# Altium footprint library MONO_JACK_HDR.PcbLib: 1 footprints
Each footprint in its own frame and in the unit in brackets; x right, y up, seen from the top. Pads: shape width x height; smd on the part's side, far side on the other; paste and mask are expansions set on the pad; w line width, h text height; cw(c..) or ccw(c..) is an arc to the next point about the centre after c.
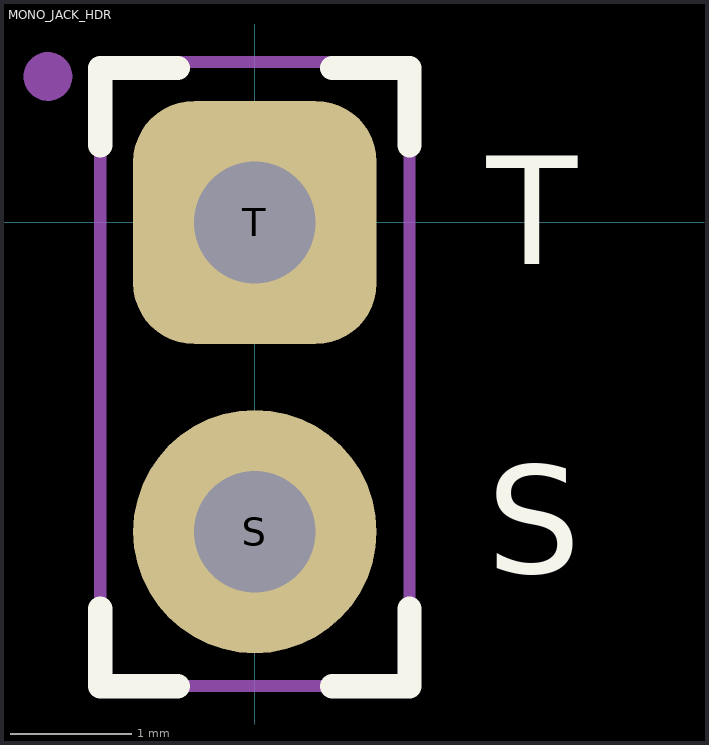
[diagram p0: the footprint, top view; thin cyan lines are the x and y axes]

## MONO_JACK_HDR [mm] "Audio Jack, Mono, No Switch, Header Connection"
height 1
pads (2):
  round 2 hole 1: S(0,-2.54)
  rrect50% 2x2 / inner round 2 / far side rrect50% 2x2 hole 1: T(0,0)
Top Overlay:
  lines w0.2: -1.27,-3.175 -1.27,-3.81 -0.635,-3.81 ; -1.27,0.635 -1.27,1.27 -0.635,1.27 ; 0.635,-3.81 1.27,-3.81 1.27,-3.175 ; 0.635,1.27 1.27,1.27 1.27,0.635
  text "T" at 1.905,-0.635 h1.52
  text "S" at 1.905,-3.175 h1.52
Mechanical 15:
  circle w0.2: c-1.7,1.2 r0.1
  lines w0.1: -1.27,-3.81 1.27,-3.81 1.27,1.32 -1.27,1.32 -1.27,-3.81
  text ".Designator" at -0.1,0.5 h0.65